# EAGLE library part FTDI (library e11)
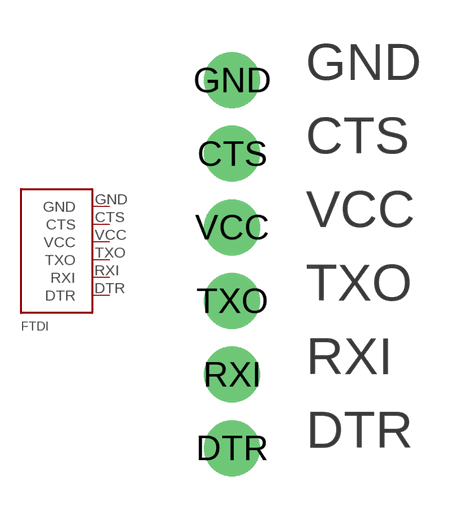
[diagram p0: symbol with the pads of FTDI; footprint FTDI]

Designator prefix -

## FTDI  [FTDI]
CTS  CTS
DTR  DTR
GND  GND
RXI  RXI
TXO  TXO
VCC  VCC

## Footprint FTDI (pad centres in mm)
drill 0.8 pad 1.93: CTS 1.27,5.08; DTR 1.27,-5.08; GND 1.27,7.62; RXI 1.27,-2.54; TXO 1.27,0; VCC 1.27,2.54